# Altium footprint library Middle_Footprints.PcbLib: 27 footprints (part 1 of 2)
Each footprint in its own frame and in the unit in brackets; x right, y up, seen from the top. Pads: shape width x height; smd on the part's side, far side on the other; paste and mask are expansions set on the pad; w line width, h text height; cw(c..) or ccw(c..) is an arc to the next point about the centre after c.
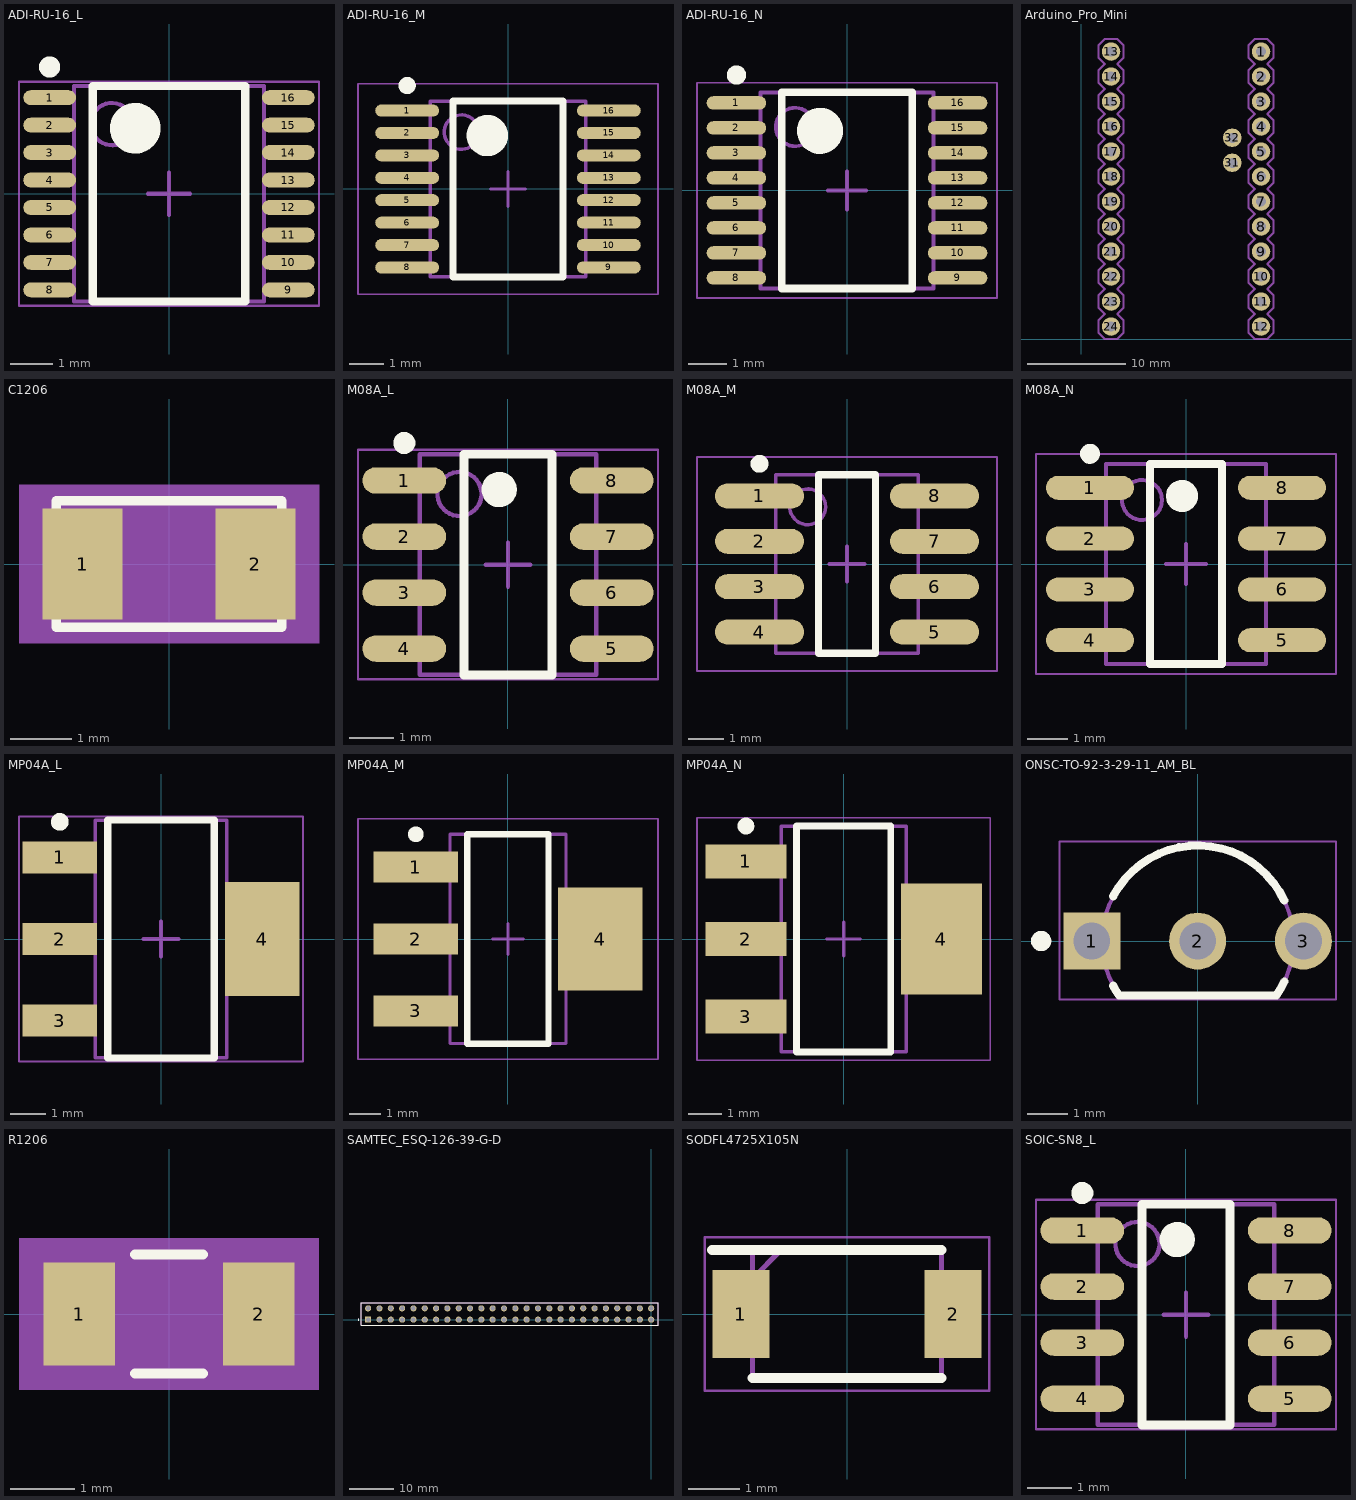
[diagram p0: the footprints below, top view; thin cyan lines are the x and y axes]

## ADI-RU-16_L [mm] "SOP, 16-Leads, Body 5x4.4mm, Pitch 0.65mm, IPC High Density"
height 1.2
pads (16):
  oval 1.25x0.35 smd: 1(-2.825,2.275) 2(-2.825,1.625) 3(-2.825,0.975) 4(-2.825,0.325) 5(-2.825,-0.325) 6(-2.825,-0.975) 7(-2.825,-1.625) 8(-2.825,-2.275) 9(2.825,-2.275) 10(2.825,-1.625) 11(2.825,-0.975) 12(2.825,-0.325) 13(2.825,0.325) 14(2.825,0.975) 15(2.825,1.625) 16(2.825,2.275)
Top Overlay:
  circle w0.6: c-0.8,1.55 r0.3
  circle w0.25: c-2.825,3 r0.125
  lines w0.2: -1.8,-2.55 1.8,-2.55 1.8,2.55 -1.8,2.55 -1.8,-2.55
Dimensions:
  text "S" at -3.301,2.095 h2.5
  text "S" at -2.074,2.095 h2.5
  text "_" at -0.846,2.095 h2.5
  text "E" at 0.297,2.095 h2.5
  text "X" at 1.694,2.095 h2.5
  text "P" at 3.345,2.095 h2.5
  text "1" at 4.615,2.095 h2.5
  text "_" at 5.758,2.095 h2.5
  text "C" at 6.901,2.095 h2.5
  text "S" at 8.425,2.095 h2.5
  text "_" at 9.653,2.095 h2.5
  text "S" at 10.796,2.095 h2.5
  text "/" at 12.023,2.095 h2.5
  text "B" at 12.658,2.095 h2.5
  text "_" at 14.182,2.095 h2.5
  text "0" at 15.325,2.095 h2.5
Mechanical 13:
  circle w0.1: c-1.35,1.65 r0.5
  lines w0.1: -2.25,-2.55 2.25,-2.55 2.25,2.55 -2.25,2.55 -2.25,-2.55
Mechanical 15:
  lines w0.05: -3.55,-2.65 3.55,-2.65 3.55,2.65 -3.55,2.65 -3.55,-2.65
  lines w0.1: -0.5,0 0.5,0 ; 0,-0.5 0,0.5
3D body: height 1.2, standoff 0.05, extent -2.25,-2.55 2.25,2.55

## ADI-RU-16_M [mm] "SOP, 16-Leads, Body 5x4.4mm, Pitch 0.65mm, IPC Low Density"
height 1.2
pads (16):
  oval 1.85x0.35 smd: 1(-2.925,2.275) 2(-2.925,1.625) 3(-2.925,0.975) 4(-2.925,0.325) 5(-2.925,-0.325) 6(-2.925,-0.975) 7(-2.925,-1.625) 8(-2.925,-2.275) 9(2.925,-2.275) 10(2.925,-1.625) 11(2.925,-0.975) 12(2.925,-0.325) 13(2.925,0.325) 14(2.925,0.975) 15(2.925,1.625) 16(2.925,2.275)
Top Overlay:
  circle w0.25: c-2.925,3 r0.125
  circle w0.6: c-0.6,1.55 r0.3
  lines w0.2: -1.6,-2.55 -1.6,2.55 1.6,2.55 1.6,-2.55 -1.6,-2.55
Mechanical 13:
  circle w0.1: c-1.35,1.65 r0.5
  lines w0.1: -2.25,-2.55 -2.25,2.55 2.25,2.55 2.25,-2.55 -2.25,-2.55
Mechanical 15:
  lines w0.05: -4.35,-3.05 -4.35,3.05 4.35,3.05 4.35,-3.05 -4.35,-3.05
  lines w0.1: -0.5,0 0.5,0 ; 0,-0.5 0,0.5
3D body: height 1.2, standoff 0.05, extent -2.25,-2.55 2.25,2.55

## ADI-RU-16_N [mm] "SOP, 16-Leads, Body 5x4.4mm, Pitch 0.65mm, IPC Medium Density"
height 1.2
pads (16):
  oval 1.55x0.35 smd: 1(-2.875,2.275) 2(-2.875,1.625) 3(-2.875,0.975) 4(-2.875,0.325) 5(-2.875,-0.325) 6(-2.875,-0.975) 7(-2.875,-1.625) 8(-2.875,-2.275) 9(2.875,-2.275) 10(2.875,-1.625) 11(2.875,-0.975) 12(2.875,-0.325) 13(2.875,0.325) 14(2.875,0.975) 15(2.875,1.625) 16(2.875,2.275)
Top Overlay:
  circle w0.25: c-2.875,3 r0.125
  circle w0.6: c-0.7,1.55 r0.3
  lines w0.2: -1.7,-2.55 -1.7,2.55 1.7,2.55 1.7,-2.55 -1.7,-2.55
Mechanical 13:
  circle w0.1: c-1.35,1.65 r0.5
  lines w0.1: -2.25,-2.55 -2.25,2.55 2.25,2.55 2.25,-2.55 -2.25,-2.55
Mechanical 15:
  lines w0.05: -3.9,-2.8 -3.9,2.8 3.9,2.8 3.9,-2.8 -3.9,-2.8
  lines w0.1: -0.5,0 0.5,0 ; 0,-0.5 0,0.5
3D body: height 1.2, standoff 0.05, extent -2.25,-2.55 2.25,2.55

## Arduino_Pro_Mini [mil]
pads (26):
  round 74 hole 40: 1(720,1150) 2(720,1050) 3(720,950) 4(720,850) 5(720,750) 6(720,650) 7(720,550) 8(720,450) 9(720,350) 10(720,250) 11(720,150) 12(720,50) 13(120,1150) 14(120,1050) 15(120,950) 16(120,850) 17(120,750) 18(120,650) 19(120,550) 20(120,450) 21(120,350) 22(120,250) 23(120,150) 24(120,50) 31(605,705) 32(605,805)
Top Layer:
  lines w10: 120,50 120,75 ; 120,150 120,175 ; 120,250 120,275 ; 120,361.35 120,350 120,375 ; 120,450 135,450 ; 720,330 720,350 ; 720,738.65 720,750 720,738.64
Bottom Layer:
  lines w10: 120,650 140,630 ; 720,241 720,250 ; 720,850 720,877
Mechanical 4:
  region: 730,60 710,60 710,40 730,40
  region: 730,160 710,160 710,140 730,140
  region: 730,260 710,260 710,240 730,240
  region: 730,360 710,360 710,340 730,340
  region: 730,460 710,460 710,440 730,440
  region: 730,1160 710,1160 710,1140 730,1140
  region: 730,1060 710,1060 710,1040 730,1040
  region: 730,960 710,960 710,940 730,940
  region: 730,860 710,860 710,840 730,840
  region: 730,760 710,760 710,740 730,740
  region: 730,660 710,660 710,640 730,640
  region: 730,560 710,560 710,540 730,540
  region: 110,1140 130,1140 130,1160 110,1160
  region: 110,1040 130,1040 130,1060 110,1060
  region: 110,940 130,940 130,960 110,960
  region: 110,840 130,840 130,860 110,860
  region: 110,740 130,740 130,760 110,760
  region: 110,40 130,40 130,60 110,60
  region: 110,140 130,140 130,160 110,160
  region: 110,240 130,240 130,260 110,260
  region: 110,340 130,340 130,360 110,360
  region: 110,440 130,440 130,460 110,460
  region: 110,540 130,540 130,560 110,560
  region: 110,640 130,640 130,660 110,660
Mechanical 8:
  lines w8: 170,325 170,375 ; 170,325 170,375 ; 170,325 145,300 170,275 170,225 145,200 170,175 170,125 145,100 170,75 170,25 145,0 95,0 70,25 70,75 95,100 70,125 70,175 95,200 70,225 70,275 95,300 70,325 70,375 95,400 70,425 70,475 95,500 70,525 70,575 95,600 70,625 70,675 95,700 70,725 70,775 95,800 70,825 70,875 95,900 70,925 70,975 95,1000 70,1025 70,1075 95,1100 70,1125 70,1175 95,1200 145,1200 170,1175 170,1125 145,1100 170,1075 170,1025 145,1000 170,975 170,925 145,900 170,875 170,825 145,800 170,775 170,725 145,700 170,675 170,625 145,600 170,575 170,525 145,500 170,475 170,425 145,400 170,375 ; 670,875 695,900 ; 670,875 670,825 695,800 670,775 670,725 695,700 670,675 670,625 695,600 670,575 670,525 695,500 670,475 670,425 695,400 670,375 670,325 695,300 670,275 670,225 695,200 670,175 670,125 695,100 670,75 670,25 695,0 745,0 770,25 770,75 745,100 770,125 770,175 745,200 770,225 770,275 745,300 770,325 770,375 745,400 770,425 770,475 745,500 770,525 770,575 745,600 770,625 770,675 745,700 770,725 770,775 745,800 770,825 770,875 745,900 770,925 770,975 745,1000 770,1025 770,1075 745,1100 770,1125 770,1175 745,1200 695,1200 670,1175 670,1125 695,1100 670,1075 670,1025 695,1000 670,975 670,925 695,900 ; 670,875 695,900
3D body: height 50, standoff 0, extent 682.68,12.68 757.32,87.32
3D body: height 50, standoff 0, extent 682.68,112.68 757.32,187.32
3D body: height 50, standoff 0, extent 682.68,212.68 757.32,287.32
3D body: height 50, standoff 0, extent 682.68,312.68 757.32,387.32
3D body: height 50, standoff 0, extent 682.68,412.68 757.32,487.32
3D body: height 50, standoff 0, extent 682.68,512.68 757.32,587.32
3D body: height 50, standoff 0, extent 682.68,612.68 757.32,687.32
3D body: height 50, standoff 0, extent 682.68,712.68 757.32,787.32
3D body: height 50, standoff 0, extent 682.68,812.68 757.32,887.32
3D body: height 50, standoff 0, extent 682.68,912.68 757.32,987.32
3D body: height 50, standoff 0, extent 682.68,1012.68 757.32,1087.32
3D body: height 50, standoff 0, extent 682.68,1112.68 757.32,1187.32
3D body: height 50, standoff 0, extent 82.68,1112.68 157.32,1187.32
3D body: height 50, standoff 0, extent 82.68,1012.68 157.32,1087.32
3D body: height 50, standoff 0, extent 82.68,912.68 157.32,987.32
3D body: height 50, standoff 0, extent 82.68,812.68 157.32,887.32
3D body: height 50, standoff 0, extent 82.68,712.68 157.32,787.32
3D body: height 50, standoff 0, extent 82.68,612.68 157.32,687.32
3D body: height 50, standoff 0, extent 82.68,512.68 157.32,587.32
3D body: height 50, standoff 0, extent 82.68,412.68 157.32,487.32
3D body: height 50, standoff 0, extent 82.68,312.68 157.32,387.32
3D body: height 50, standoff 0, extent 82.68,212.68 157.32,287.32
3D body: height 50, standoff 0, extent 82.68,112.68 157.32,187.32
3D body: height 50, standoff 0, extent 82.68,12.68 157.32,87.32
3D body: height 50, standoff 0, extent 567.68,767.68 642.32,842.32
3D body: height 50, standoff 0, extent 567.68,667.68 642.32,742.32
3D body "ProMini.stp": height 525.59, standoff 364.13, extent 70,0 770,1300

## C1206 [mm]
pads (2):
  rect 1.3x1.8 smd paste+0 mask+0: 1(-1.4,0) 2(1.4,0)
Top Overlay:
  lines w0.152: -1.827,-1.027 -1.827,1.027 1.827,1.027 1.827,-1.027 -1.827,-1.027
Mechanical 5:
  region: 2.431,-1.281 -2.431,-1.281 -2.431,1.281 2.431,1.281
Mechanical 13:
  lines w0.025: -1.7,-0.9 -1.7,0.9 ; -1.7,-0.9 1.7,-0.9 ; -1.7,-0.9 -0.95,-0.9 -0.95,0.9 -1.7,0.9 ; -1.7,-0.9 -1.7,0.9 ; -1.7,0.9 1.7,0.9 ; 1.7,-0.9 1.7,0.9 ; 1.7,-0.9 1.7,0.9 ; 1.7,-0.9 0.95,-0.9 0.95,0.9 1.7,0.9
Mechanical 15:
  region: 2.304,-1.154 -2.304,-1.154 -2.304,1.154 2.304,1.154
  lines w0.152: -2.304,-1.154 2.304,-1.154 2.304,1.154 -2.304,1.154 -2.304,-1.154
3D body: height 0.25, standoff 0, extent 0,0 0.254,0.254
3D body "CAPC340180_88N_KEM.step": height 0.88, standoff 0, extent -1.7,-0.9 1.7,0.9

## M08A_L [mm] "SOIC, 8-Leads, Body 4.9x3.9mm, Pitch 1.27mm, IPC High Density"
height 1.75
pads (8):
  oval 1.9x0.6 smd: 1(-2.35,1.905) 2(-2.35,0.635) 3(-2.35,-0.635) 4(-2.35,-1.905) 5(2.35,-1.905) 6(2.35,-0.635) 7(2.35,0.635) 8(2.35,1.905)
Top Overlay:
  circle w0.4: c-0.2,1.7 r0.2
  circle w0.25: c-2.35,2.755 r0.125
  lines w0.2: -1,-2.5 1,-2.5 1,2.5 -1,2.5 -1,-2.5
Mechanical 13:
  circle w0.1: c-1.1,1.6 r0.5
  lines w0.1: -2,-2.5 2,-2.5 2,2.5 -2,2.5 -2,-2.5
Mechanical 15:
  lines w0.05: -3.4,-2.6 3.4,-2.6 3.4,2.6 -3.4,2.6 -3.4,-2.6
  lines w0.1: -0.5,0 0.5,0 ; 0,-0.5 0,0.5
3D body: height 1.75, standoff 0.1, extent -2,-2.5 2,2.5

## M08A_M [mm] "SOIC, 8-Leads, Body 4.9x3.9mm, Pitch 1.27mm, IPC Low Density"
height 1.75
pads (8):
  oval 2.5x0.7 smd: 1(-2.45,1.905) 2(-2.45,0.635) 3(-2.45,-0.635) 4(-2.45,-1.905) 5(2.45,-1.905) 6(2.45,-0.635) 7(2.45,0.635) 8(2.45,1.905)
Top Overlay:
  circle w0.25: c-2.45,2.805 r0.125
  lines w0.2: -0.8,-2.5 0.8,-2.5 0.8,2.5 -0.8,2.5 -0.8,-2.5
Mechanical 13:
  circle w0.1: c-1.1,1.6 r0.5
  lines w0.1: -2,-2.5 2,-2.5 2,2.5 -2,2.5 -2,-2.5
Mechanical 15:
  lines w0.05: -4.2,-3 4.2,-3 4.2,3 -4.2,3 -4.2,-3
  lines w0.1: -0.5,0 0.5,0 ; 0,-0.5 0,0.5
3D body: height 1.75, standoff 0.1, extent -2,-2.5 2,2.5

## M08A_N [mm] "SOIC, 8-Leads, Body 4.9x3.9mm, Pitch 1.27mm, IPC Medium Density"
height 1.75
pads (8):
  oval 2.2x0.6 smd: 1(-2.4,1.905) 2(-2.4,0.635) 3(-2.4,-0.635) 4(-2.4,-1.905) 5(2.4,-1.905) 6(2.4,-0.635) 7(2.4,0.635) 8(2.4,1.905)
Top Overlay:
  circle w0.4: c-0.1,1.7 r0.2
  circle w0.25: c-2.4,2.755 r0.125
  lines w0.2: -0.9,-2.5 0.9,-2.5 0.9,2.5 -0.9,2.5 -0.9,-2.5
Mechanical 13:
  circle w0.1: c-1.1,1.6 r0.5
  lines w0.1: -2,-2.5 2,-2.5 2,2.5 -2,2.5 -2,-2.5
Mechanical 15:
  lines w0.05: -3.75,-2.75 3.75,-2.75 3.75,2.75 -3.75,2.75 -3.75,-2.75
  lines w0.1: -0.5,0 0.5,0 ; 0,-0.5 0,0.5
3D body: height 1.75, standoff 0.1, extent -2,-2.5 2,2.5

## MP04A_L [mm] "SOT223, 4-Leads, Body 6.5x3.5mm, Pitch 2.3mm, Lead Span 7mm, IPC High Density"
height 1.8
pads (4):
  rect 2.1x0.9 smd: 1(-2.85,2.3) 2(-2.85,0) 3(-2.85,-2.3)
  rect 2.1x3.2 smd: 4(2.85,0)
Top Overlay:
  circle w0.25: c-2.85,3.3 r0.125
  lines w0.2: -1.5,-3.35 -1.5,3.35 1.5,3.35 1.5,-3.35 -1.5,-3.35
Mechanical 13:
  lines w0.1: -1.855,-3.35 -1.855,3.35 1.855,3.35 1.855,-3.35 -1.855,-3.35
Mechanical 15:
  lines w0.05: -4,-3.45 -4,3.45 4,3.45 4,-3.45 -4,-3.45
  lines w0.1: -0.5,0 0.5,0 ; 0,-0.5 0,0.5
3D body: height 1.8, standoff 0.03, extent -1.855,-3.35 1.855,3.35

## MP04A_M [mm] "SOT223, 4-Leads, Body 6.5x3.5mm, Pitch 2.3mm, Lead Span 7mm, IPC Low Density"
height 1.8
pads (4):
  rect 2.7x1 smd: 1(-2.95,2.3) 2(-2.95,0) 3(-2.95,-2.3)
  rect 2.7x3.3 smd: 4(2.95,0)
Top Overlay:
  circle w0.25: c-2.95,3.35 r0.125
  lines w0.2: -1.3,-3.35 1.3,-3.35 1.3,3.35 -1.3,3.35 -1.3,-3.35
Mechanical 13:
  lines w0.1: -1.855,-3.35 1.855,-3.35 1.855,3.35 -1.855,3.35 -1.855,-3.35
Mechanical 15:
  lines w0.05: -4.8,-3.85 4.8,-3.85 4.8,3.85 -4.8,3.85 -4.8,-3.85
  lines w0.1: -0.5,0 0.5,0 ; 0,-0.5 0,0.5
3D body: height 1.8, standoff 0.03, extent -1.855,-3.35 1.855,3.35

## MP04A_N [mm] "SOT223, 4-Leads, Body 6.5x3.5mm, Pitch 2.3mm, Lead Span 7mm, IPC Medium Density"
height 1.8
pads (4):
  rect 2.4x1 smd: 1(-2.9,2.3) 2(-2.9,0) 3(-2.9,-2.3)
  rect 2.4x3.3 smd: 4(2.9,0)
Top Overlay:
  circle w0.25: c-2.9,3.35 r0.125
  lines w0.2: -1.4,-3.35 1.4,-3.35 1.4,3.35 -1.4,3.35 -1.4,-3.35
Mechanical 13:
  lines w0.1: -1.855,-3.35 1.855,-3.35 1.855,3.35 -1.855,3.35 -1.855,-3.35
Mechanical 15:
  lines w0.05: -4.35,-3.6 4.35,-3.6 4.35,3.6 -4.35,3.6 -4.35,-3.6
  lines w0.1: -0.5,0 0.5,0 ; 0,-0.5 0,0.5
3D body: height 1.8, standoff 0.03, extent -1.855,-3.35 1.855,3.35

## ONSC-TO-92-3-29-11_AM_BL [mm] "TO, 3-Leads, Body Dia 4.7mm, Pitch 2.6mm"
height 8.923
pads (3):
  rect 1.4x1.4 hole 0.9: 1(-2.6,0)
  round 1.4 hole 0.9: 2(0,0) 3(2.6,0)
Top Overlay:
  circle w0.25: c-3.85,0 r0.125
  lines w0.2: -2.077,-1.1 ccw(c0,0) -1.934,-1.335 1.934,-1.335 ccw(c0,0) 2.129,-0.994 ; -2.077,1.1 cw(c0,0) 2.129,0.994
Mechanical 13:
  lines w0.1: -1.934,-1.335 cw(c0,0) 1.934,-1.335 -1.934,-1.335
Mechanical 15:
  lines w0.05: -3.4,-1.435 3.4,-1.435 3.4,2.45 -3.4,2.45 -3.4,-1.435
  lines w0.1: -0.5,0 0.5,0 ; 0,-0.5 0,0.5
3D body: height 8.92, standoff 1.5, extent -2.359,-1.335 2.359,2.351
3D body "PCB3.step": height 4, standoff -8.7, extent -2.836,-0.222 2.836,0.223

## R1206 [mil] "SMD"
pads (2):
  rect 44x63 smd: 1(-55,0) 2(55,0)
Top Overlay:
  lines w6: -20.89,-36.5 20.89,-36.5 ; -20.89,36.5 20.89,36.5
Mechanical 5:
  region: 92,-46.5 -92,-46.5 -92,46.5 92,46.5
Mechanical 13:
  lines w1: -63,-31.5 -63,31.5 ; -63,-31.5 -33,-31.5 -33,31.5 -63,31.5 ; -63,-31.5 63,-31.5 ; -63,-31.5 -63,31.5 ; -63,31.5 63,31.5 ; 63,-31.5 33,-31.5 33,31.5 63,31.5 ; 63,-31.5 63,31.5 ; 63,-31.5 63,31.5
3D body "RC1206N.step": height 27.99, standoff 0, extent -62.99,-31.5 62.99,31.5
3D body: height 10, standoff 0, extent 0,0 10,10

## SAMTEC_ESQ-126-39-G-D [mm]
pads (52):
  rect 1.37x1.37 hole 1.02: 01(-63.5,0)
  round 1.37 hole 1.02: 02(-63.5,2.54) 03(-60.96,0) 04(-60.96,2.54) 05(-58.42,0) 06(-58.42,2.54) 07(-55.88,0) 08(-55.88,2.54) 09(-53.34,0) 10(-53.34,2.54) 11(-50.8,0) 12(-50.8,2.54) 13(-48.26,0) 14(-48.26,2.54) 15(-45.72,0) 16(-45.72,2.54) 17(-43.18,0) 18(-43.18,2.54) 19(-40.64,0) 20(-40.64,2.54) 21(-38.1,0) 22(-38.1,2.54) 23(-35.56,0) 24(-35.56,2.54) 25(-33.02,0) 26(-33.02,2.54) 27(-30.48,0) 28(-30.48,2.54) 29(-27.94,0) 30(-27.94,2.54) 31(-25.4,0) 32(-25.4,2.54) 33(-22.86,0) 34(-22.86,2.54) 35(-20.32,0) 36(-20.32,2.54) 37(-17.78,0) 38(-17.78,2.54) 39(-15.24,0) 40(-15.24,2.54) 41(-12.5,0) 42(-12.7,2.54) 43(-10.16,0) 44(-10.16,2.54) 45(-7.62,0) 46(-7.62,2.54) 47(-5.08,0) 48(-5.08,2.54) 49(-2.54,0) 50(-2.54,2.54) 51(0,0) 52(0,2.54)
Top Overlay:
  circle w0.2: c-65.675,0 r0.1
  lines w0.05: -65.025,-1.205 -65.025,3.745 1.525,3.745 1.525,-1.205 -65.025,-1.205
Mechanical 13:
  circle w0.2: c-65.675,0 r0.1
  lines w0.1: -65.025,-1.205 -65.025,3.745 ; -65.025,-1.205 1.525,-1.205 ; -65.025,-1.205 -65.025,3.745 ; -65.025,3.745 1.525,3.745 ; -65.025,3.745 1.525,3.745 ; 1.525,-1.205 1.525,3.745 ; 1.525,-1.205 1.525,3.745
3D body "FIX_ESQ-126-39-G-D(1).step": height 11.73, standoff -11.51, extent -65.025,-1.208 1.523,3.745

## SODFL4725X105N [mm]
pads (2):
  rect 1.12x1.72 smd: 1(-2.075,0) 2(2.075,0)
Top Overlay:
  lines w0.2: -2.635,1.25 1.85,1.25 ; -1.85,-1.25 1.85,-1.25
Mechanical 13:
  lines w0.1: -1.85,0.69 -1.29,1.25 ; -1.85,-1.25 1.85,-1.25 1.85,1.25 -1.85,1.25 -1.85,-1.25
Mechanical 15:
  lines w0.05: -2.785,-1.5 2.785,-1.5 2.785,1.5 -2.785,1.5 -2.785,-1.5
3D body "RBR3LAM30ATFTR.stp": height 1.05, standoff 0, extent -2.35,-1.25 2.35,1.25

## SOIC-SN8_L [mm] "SOIC, 8-Leads, Body 4.9x3.8mm, Pitch 1.27mm, IPC High Density"
height 1.75
pads (8):
  oval 1.9x0.6 smd: 1(-2.35,1.905) 2(-2.35,0.635) 3(-2.35,-0.635) 4(-2.35,-1.905) 5(2.35,-1.905) 6(2.35,-0.635) 7(2.35,0.635) 8(2.35,1.905)
Top Overlay:
  circle w0.25: c-2.35,2.755 r0.125
  circle w0.4: c-0.2,1.7 r0.2
  lines w0.2: -1,-2.5 -1,2.5 1,2.5 1,-2.5 -1,-2.5
Mechanical 13:
  circle w0.1: c-1.1,1.6 r0.5
  lines w0.1: -2,-2.5 -2,2.5 2,2.5 2,-2.5 -2,-2.5
Mechanical 15:
  lines w0.05: -3.4,-2.6 -3.4,2.6 3.4,2.6 3.4,-2.6 -3.4,-2.6
  lines w0.1: -0.5,0 0.5,0 ; 0,-0.5 0,0.5
3D body: height 1.75, standoff 0.1, extent -2,-2.5 2,2.5